# Altium footprint library fszhang.PcbLib: 227 footprints (part 7 of 15)
Each footprint in its own frame and in the unit in brackets; x right, y up, seen from the top. Pads: shape width x height; smd on the part's side, far side on the other; paste and mask are expansions set on the pad; w line width, h text height; cw(c..) or ccw(c..) is an arc to the next point about the centre after c.
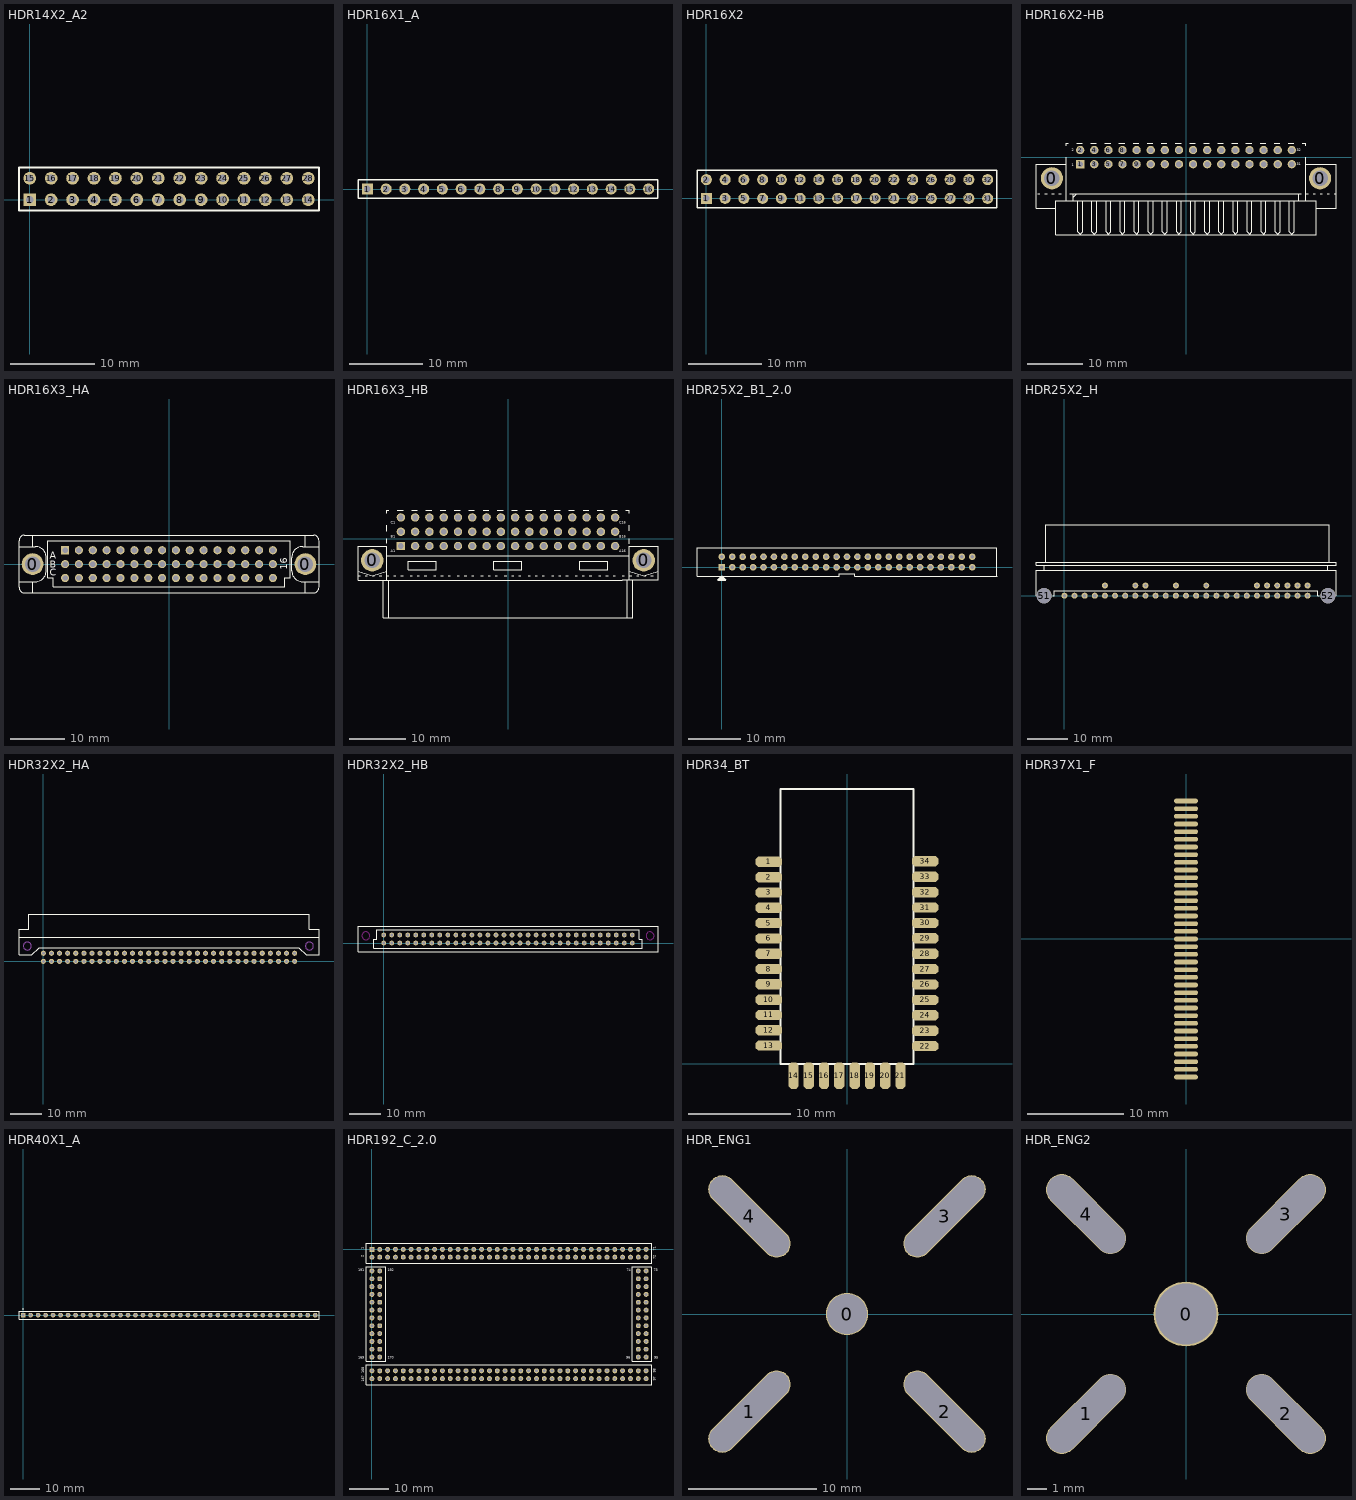
[diagram p6: the footprints below, top view; thin cyan lines are the x and y axes]

## HDR14X2_A2 [mm]
height 7
pads (28):
  rect 1.5x1.5 hole 0.9: 1(0,0)
  round 1.5 hole 0.9: 2(2.54,0) 3(5.08,0) 4(7.62,0) 5(10.16,0) 6(12.7,0) 7(15.24,0) 8(17.78,0) 9(20.32,0) 10(22.86,0) 11(25.4,0) 12(27.94,0) 13(30.48,0) 14(33.02,0) 15(0,2.54) 16(2.54,2.54) 17(5.08,2.54) 18(7.62,2.54) 19(10.16,2.54) 20(12.7,2.54) 21(15.24,2.54) 22(17.78,2.54) 23(20.32,2.54) 24(22.86,2.54) 25(25.4,2.54) 26(27.94,2.54) 27(30.48,2.54) 28(33.02,2.54)
Top Overlay:
  lines w0.2: -1.27,-1.27 -1.27,3.81 34.29,3.81 34.29,-1.27 -1.27,-1.27

## HDR16X1_A [mm] "Connector; Header; 16 Position"
height 5.8
pads (16):
  rect 1.5x1.5 hole 0.9: 1(0,0)
  round 1.5 hole 0.9: 2(2.54,0) 3(5.08,0) 4(7.62,0) 5(10.16,0) 6(12.7,0) 7(15.24,0) 8(17.78,0) 9(20.32,0) 10(22.86,0) 11(25.4,0) 12(27.94,0) 13(30.48,0) 14(33.02,0) 15(35.56,0) 16(38.1,0)
Top Overlay:
  lines w0.2: -1.27,-1.27 -1.27,1.27 0.635,1.27 39.37,1.27 39.37,-1.27 -1.27,-1.27

## HDR16X2 [mm] "Connector; Header; 16x2 Position"
height 1.2
pads (32):
  rect 1.5x1.5 hole 0.9: 1(0,0)
  round 1.5 hole 0.9: 2(0,2.54) 3(2.54,0) 4(2.54,2.54) 5(5.08,0) 6(5.08,2.54) 7(7.62,0) 8(7.62,2.54) 9(10.16,0) 10(10.16,2.54) 11(12.7,0) 12(12.7,2.54) 13(15.24,0) 14(15.24,2.54) 15(17.78,0) 16(17.78,2.54) 17(20.32,0) 18(20.32,2.54) 19(22.86,0) 20(22.86,2.54) 21(25.4,0) 22(25.4,2.54) 23(27.94,0) 24(27.94,2.54) 25(30.48,0) 26(30.48,2.54) 27(33.02,0) 28(33.02,2.54) 29(35.56,0) 30(35.56,2.54) 31(38.1,0) 32(38.1,2.54)
Top Overlay:
  lines w0.2: -1.27,-1.27 39.37,-1.27 39.37,3.81 -1.27,3.81 -1.27,-1.27

## HDR16X2-HB [mm]
height 8.6
pads (34):
  round 4 hole 2.8: 0(-24.13,-3.81) 0(24.13,-3.81)
  rect 1.5x1.5 hole 1: 1(-19.05,-1.27)
  round 1.5 hole 1: 2(-19.05,1.27) 3(-16.51,-1.27) 4(-16.51,1.27) 5(-13.97,-1.27) 6(-13.97,1.27) 7(-11.43,-1.27) 8(-11.43,1.27) 9(-8.89,-1.27) 10(-8.89,1.27) 11(-6.35,-1.27) 12(-6.35,1.27) 13(-3.81,-1.27) 14(-3.81,1.27) 15(-1.27,-1.27) 16(-1.27,1.27) 17(1.27,-1.27) 18(1.27,1.27) 19(3.81,-1.27) 20(3.81,1.27) 21(6.35,-1.27) 22(6.35,1.27) 23(8.89,-1.27) 24(8.89,1.27) 25(11.43,-1.27) 26(11.43,1.27) 27(13.97,-1.27) 28(13.97,1.27) 29(16.51,-1.27) 30(16.51,1.27) 31(19.05,-1.27) 32(19.05,1.27)
Top Overlay:
  lines w0.2: -27,-6.57 -26.924,-6.57 ; -26.67,-6.57 -26.289,-6.57 ; -25.4,-6.57 -25.019,-6.57 ; -24.13,-6.57 -23.749,-6.57 ; -23.45,-7.874 -23.45,-9.21 ; -23.45,-7.84 -20.32,-7.84 ; -22.86,-6.57 -22.479,-6.57 ; -21.59,-7.84 -21.59,0 ; -21.59,-1.27 -27,-1.27 -27,-9.21 -23.45,-9.21 ; -21.59,2.032 -21.59,2.54 -21.209,2.54 ; -20.955,-6.57 20.701,-6.57 ; -20.32,-7.205 -19.685,-6.57 ; -19.685,2.54 -18.669,2.54 ; -19.473,-7.84 -19.473,-13.427 -19.05,-13.85 -18.627,-13.427 -18.627,-7.84 ; -17.145,2.54 -16.129,2.54 ; -16.933,-7.84 -16.933,-13.427 -16.51,-13.85 -16.087,-13.427 -16.087,-7.84 ; -14.605,2.54 -13.589,2.54 ; -14.393,-7.84 -14.393,-13.427 -13.97,-13.85 -13.547,-13.427 -13.547,-7.84 ; -12.065,2.54 -11.049,2.54 ; -11.853,-7.84 -11.853,-13.427 -11.43,-13.85 -11.007,-13.427 -11.007,-7.84 ; -9.525,2.54 -8.509,2.54 ; -9.313,-7.84 -9.313,-13.427 -8.89,-13.85 -8.467,-13.427 -8.467,-7.84 ; -6.985,2.54 -5.969,2.54 ; -6.773,-7.84 -6.773,-13.427 -6.35,-13.85 -5.927,-13.427 -5.927,-7.84 ; -4.445,2.54 -3.429,2.54 ; -4.233,-7.84 -4.233,-13.427 -3.81,-13.85 -3.387,-13.427 -3.387,-7.84 ; -1.905,2.54 -0.889,2.54 ; -1.693,-7.84 -1.693,-13.427 -1.27,-13.85 -0.847,-13.427 -0.847,-7.84 ; 0.635,2.54 1.651,2.54 ; 0.847,-7.84 0.847,-13.427 1.27,-13.85 1.693,-13.427 1.693,-7.84 ; 3.175,2.54 4.191,2.54 ; 3.387,-7.84 3.387,-13.427 3.81,-13.85 4.233,-13.427 4.233,-7.84 ; 5.715,2.54 6.731,2.54 ; 5.927,-7.84 5.927,-13.427 6.35,-13.85 6.773,-13.427 6.773,-7.84 ; 8.255,2.54 9.271,2.54 ; 8.467,-7.84 8.467,-13.427 8.89,-13.85 9.313,-13.427 9.313,-7.84 ; 10.795,2.54 11.811,2.54 ; 11.007,-7.84 11.007,-13.427 11.43,-13.85 11.853,-13.427 11.853,-7.84 ; 13.335,2.54 14.351,2.54 ; 13.547,-7.84 13.547,-13.427 13.97,-13.85 14.393,-13.427 14.393,-7.84 ; 15.875,2.54 16.891,2.54 ; 16.087,-7.84 16.087,-13.427 16.51,-13.85 16.933,-13.427 16.933,-7.84 ; 18.415,2.54 19.431,2.54 ; 18.627,-7.84 18.627,-13.427 19.05,-13.85 19.473,-13.427 19.473,-7.84 ; 20.955,2.54 21.59,2.54 21.59,2.032 ; 21.59,-7.84 21.59,0 ; 21.59,-6.57 21.971,-6.57 ; 21.59,-1.27 27,-1.27 27,-9.21 23.45,-9.21 ; 22.86,-6.57 23.241,-6.57 ; 24.13,-6.57 24.511,-6.57 ; 25.4,-6.57 25.781,-6.57 ; 26.67,-6.57 27,-6.57 ; -23.45,-9.21 -23.45,-14.01 23.45,-14.01 23.45,-9.565 23.45,-8.803 23.45,-7.84 20.32,-7.84 ; -20.32,-7.84 20.32,-7.84 ; -20.32,-7.84 -20.32,-6.57 20.32,-6.57 20.32,-7.84
  text "32" at 19.939,0.889 h0.8
  text "31" at 19.939,-1.651 h0.8
  text "1" at -20.574,-1.778 h0.8
  text "2" at -20.574,0.889 h0.8

## HDR16X3_HA [mm]
height 10
pads (50):
  round 4 hole 2.8: 0(-25,0) 0(25,0)
  rect 1.5x1.5 hole 1: A1(-19.05,2.54)
  round 1.5 hole 1: A2(-16.51,2.54) A3(-13.97,2.54) A4(-11.43,2.54) A5(-8.89,2.54) A6(-6.35,2.54) A7(-3.81,2.54) A8(-1.27,2.54) A9(1.27,2.54) A10(3.81,2.54) A11(6.35,2.54) A12(8.89,2.54) A13(11.43,2.54) A14(13.97,2.54) A15(16.51,2.54) A16(19.05,2.54) B1(-19.05,0) B2(-16.51,0) B3(-13.97,0) B4(-11.43,0) B5(-8.89,0) B6(-6.35,0) B7(-3.81,0) B8(-1.27,0) B9(1.27,0) B10(3.81,0) B11(6.35,0) B12(8.89,0) B13(11.43,0) B14(13.97,0) B15(16.51,0) B16(19.05,0) C1(-19.05,-2.54) C2(-16.51,-2.54) C3(-13.97,-2.54) C4(-11.43,-2.54) C5(-8.89,-2.54) C6(-6.35,-2.54) C7(-3.81,-2.54) C8(-1.27,-2.54) C9(1.27,-2.54) C10(3.81,-2.54) C11(6.35,-2.54) C12(8.89,-2.54) C13(11.43,-2.54) C14(13.97,-2.54) C15(16.51,-2.54) C16(19.05,-2.54)
Top Overlay:
  lines w0.2: -27.5,-3.2 -24.5,-3.2 ccw(c-24.5,-1.2) -22.5,-1.2 -22.5,1.2 ccw(c-24.5,1.2) -24.5,3.2 -27.5,3.2 ; -25,-5.25 -25,-3.2 ; -25,3.2 -25,5.3 ; 25,-5.25 25,-3.2 ; 25,3.2 25,5.3 ; 26.497,-5.25 22.5,-5.25 -22.5,-5.25 -26.5,-5.25 cw(c-26.5,-4.25) -27.5,-4.25 -27.5,3.2 ; 26.5,-5.25 ccw(c26.5,-4.25) 27.5,-4.25 27.5,3.2 ; 27.5,-3.2 24.5,-3.2 cw(c24.5,-1.2) 22.5,-1.2 22.5,1.2 cw(c24.5,1.2) 24.5,3.2 27.5,3.2 ; -27.5,3.2 -27.5,4.3 cw(c-26.5,4.3) -26.5,5.3 26.5,5.3 cw(c26.5,4.3) 27.5,4.3 27.5,3.2 ; -22.2,-2.54 -22.2,4.25 22.2,4.25 22.2,-2.54 21.225,-2.54 21.225,-4.178 -21.225,-4.178 -21.225,-2.54 -22.2,-2.54
  text "B" at -21.844,-0.635 h1.27
  text "A" at -21.844,1.016 h1.27
  text "C" at -21.844,-2.159 h1.27
  text "16" at 21.717,-1.016 h1.27

## HDR16X3_HB [mm]
height 10
pads (50):
  round 4 hole 2.8: 0(-24.13,-3.81) 0(24.13,-3.81)
  rect 1.5x1.5 hole 1: A1(-19.05,-1.27)
  round 1.5 hole 1: A2(-16.51,-1.27) A3(-13.97,-1.27) A4(-11.43,-1.27) A5(-8.89,-1.27) A6(-6.35,-1.27) A7(-3.81,-1.27) A8(-1.27,-1.27) A9(1.27,-1.27) A10(3.81,-1.27) A11(6.35,-1.27) A12(8.89,-1.27) A13(11.43,-1.27) A14(13.97,-1.27) A15(16.51,-1.27) A16(19.05,-1.27) B1(-19.05,1.27) B2(-16.51,1.27) B3(-13.97,1.27) B4(-11.43,1.27) B5(-8.89,1.27) B6(-6.35,1.27) B7(-3.81,1.27) B8(-1.27,1.27) B9(1.27,1.27) B10(3.81,1.27) B11(6.35,1.27) B12(8.89,1.27) B13(11.43,1.27) B14(13.97,1.27) B15(16.51,1.27) B16(19.05,1.27) C1(-19.05,3.81) C2(-16.51,3.81) C3(-13.97,3.81) C4(-11.43,3.81) C5(-8.89,3.81) C6(-6.35,3.81) C7(-3.81,3.81) C8(-1.27,3.81) C9(1.27,3.81) C10(3.81,3.81) C11(6.35,3.81) C12(8.89,3.81) C13(11.43,3.81) C14(13.97,3.81) C15(16.51,3.81) C16(19.05,3.81)
Top Overlay:
  lines w0.2: -26.67,-6.57 -26.289,-6.57 ; -26.67,-5.755 -24.13,-6.566 -21.59,-5.755 ; -25.4,-6.57 -25.019,-6.57 ; -24.13,-6.57 -23.749,-6.57 ; -22.86,-6.57 -22.479,-6.57 ; -21.59,-7.31 -21.59,-1.27 -26.67,-1.27 -26.67,-7.31 -22.92,-7.31 -20.32,-7.31 20.32,-7.31 ; -21.59,-6.57 -21.209,-6.57 ; -21.59,-3.01 21.59,-3.01 ; -21.59,-0.789 -21.59,0 ; -21.59,1.397 -21.59,2.413 ; -21.59,4.572 -21.59,5.08 -21.209,5.08 ; -20.32,-6.57 -19.939,-6.57 ; -19.685,5.08 -18.669,5.08 ; -19.05,-6.57 -18.669,-6.57 ; -17.399,-6.57 -17.018,-6.57 ; -17.145,5.08 -16.129,5.08 ; -16.129,-6.57 -15.748,-6.57 ; -14.859,-6.57 -14.478,-6.57 ; -14.605,5.08 -13.589,5.08 ; -13.208,-6.57 -12.827,-6.57 ; -12.065,5.08 -11.049,5.08 ; -11.938,-6.57 -11.557,-6.57 ; -10.668,-6.57 -10.287,-6.57 ; -9.525,5.08 -8.509,5.08 ; -9.017,-6.57 -8.636,-6.57 ; -7.747,-6.57 -7.366,-6.57 ; -6.985,5.08 -5.969,5.08 ; -6.477,-6.57 -6.096,-6.57 ; -4.826,-6.57 -4.445,-6.57 ; -4.445,5.08 -3.429,5.08 ; -3.556,-6.57 -3.175,-6.57 ; -2.286,-6.57 -1.905,-6.57 ; -1.905,5.08 -0.889,5.08 ; -0.635,-6.57 -0.254,-6.57 ; 0.635,-6.57 1.016,-6.57 ; 0.635,5.08 1.651,5.08 ; 1.905,-6.57 2.286,-6.57 ; 3.175,5.08 4.191,5.08 ; 3.556,-6.57 3.937,-6.57 ; 4.826,-6.57 5.207,-6.57 ; 5.715,5.08 6.731,5.08 ; 6.096,-6.57 6.477,-6.57 ; 7.747,-6.57 8.128,-6.57 ; 8.255,5.08 9.271,5.08 ; 9.017,-6.57 9.398,-6.57 ; 10.287,-6.57 10.668,-6.57 ; 10.795,5.08 11.811,5.08 ; 11.938,-6.57 12.319,-6.57 ; 13.208,-6.57 13.589,-6.57 ; 13.335,5.08 14.351,5.08 ; 14.478,-6.57 14.859,-6.57 ; 15.875,5.08 16.891,5.08 ; 16.129,-6.57 16.51,-6.57 ; 17.399,-6.57 17.78,-6.57 ; 18.415,5.08 19.431,5.08 ; 18.669,-6.57 19.05,-6.57 ; 20.32,-7.304 22.914,-7.304 26.67,-7.304 26.67,-1.27 21.59,-1.27 21.59,-7.304 ; 20.32,-6.57 20.701,-6.57 ; 20.955,5.08 21.59,5.08 21.59,4.572 ; 21.59,-5.755 24.13,-6.566 26.67,-5.755 ; 21.59,-0.865 21.59,0 ; 21.59,1.41 21.59,2.426 ; 24.13,-6.57 24.511,-6.57 ; 25.4,-6.57 25.781,-6.57 ; -22.2,-14.01 -22.2,-7.31 -21.225,-7.31 -21.225,-14.01 21.225,-14.01 21.225,-7.304 22.2,-7.304 22.2,-14.01 -22.2,-14.01 ; -17.755,-5.45 -12.755,-5.45 -12.755,-4.01 -17.755,-4.01 -17.755,-5.45 ; -2.515,-5.45 -2.515,-4.01 2.485,-4.01 2.485,-5.45 -2.515,-5.45 ; 12.755,-5.45 17.755,-5.45 17.755,-4.01 12.755,-4.01 12.755,-5.45 ; 21.59,-6.57 21.971,-6.57 21.59,-6.57 ; 22.86,-6.57 23.241,-6.57 22.86,-6.57
  text "C16" at 19.812,2.54 h0.8
  text "C1" at -20.828,2.54 h0.8
  text "B16" at 19.812,0 h0.8
  text "A16" at 19.812,-2.54 h0.8
  text "A1" at -20.828,-2.54 h0.8
  text "B1" at -20.828,0 h0.8

## HDR25X2_B1_2.0 [mm]
height 7
pads (50):
  rect 1.27x1.27 hole 0.711: 1(0,0)
  round 1.27 hole 0.711: 2(0,2) 3(2,0) 4(2,2) 5(4,0) 6(4,2) 7(6,0) 8(6,2) 9(8,0) 10(8,2) 11(10,0) 12(10,2) 13(12,0) 14(12,2) 15(14,0) 16(14,2) 17(16,0) 18(16,2) 19(18,0) 20(18,2) 21(20,0) 22(20,2) 23(22,0) 24(22,2) 25(24,0) 26(24,2) 27(26,0) 28(26,2) 29(28,0) 30(28,2) 31(30,0) 32(30,2) 33(32,0) 34(32,2) 35(34,0) 36(34,2) 37(36,0) 38(36,2) 39(38,0) 40(38,2) 41(40,0) 42(40,2) 43(42,0) 44(42,2) 45(44,0) 46(44,2) 47(46,0) 48(46,2) 49(48,0) 50(48,2)
Top Overlay:
  lines w0.178: -4.75,-1.75 -4.75,3.75 52.75,3.75 52.75,-1.75 25.5,-1.75 25.5,-1.25 22.5,-1.25 22.5,-1.75 -4.75,-1.75
  lines w0.25: 0,-2 0,-1.75 ; 0,-2 -0.25,-2.25 0.25,-2.25 ; 0,-2 0.25,-2.25 ; 0,-2 -0.5,-2.5 0.5,-2.5 0.25,-2.25 ; 0,-1.75 -0.75,-2.5 0.75,-2.5 0,-1.75
Bottom Overlay:
  text "1" at 0,-1.016 h0.64
  text "2" at 0,3.556 h0.64
  text "9" at 8.128,-1.016 h0.64
  text "10" at 8.128,4.064 h0.64
  text "19" at 18.288,-1.016 h0.64
  text "20" at 18.288,4.064 h0.64
  text "29" at 27.94,-1.016 h0.64
  text "30" at 27.94,4.064 h0.64
  text "39" at 38.1,-1.016 h0.64
  text "40" at 38.1,4.064 h0.64
  text "49" at 48.26,-1.016 h0.64
  text "50" at 48.26,4.064 h0.64

## HDR25X2_H [mm] "控制器接插件"
height 5.8
pads (38):
  round 1.5 hole 0.8: 1(0,0) 2(2.54,0) 3(5.08,0) 4(7.62,0) 5(10.16,0) 6(12.7,0) 7(15.24,0) 8(17.78,0) 9(20.32,0) 10(22.86,0) 11(25.4,0) 12(27.94,0) 13(30.48,0) 14(33.02,0) 15(35.56,0) 16(38.1,0) 17(40.64,0) 18(43.18,0) 19(45.72,0) 20(48.26,0) 21(50.8,0) 22(53.34,0) 23(55.88,0) 24(58.42,0) 25(60.96,0) 30(10.16,2.54) 33(17.78,2.54) 34(20.32,2.54) 37(27.94,2.54) 40(35.56,2.54) 45(48.26,2.54) 46(50.8,2.54) 47(53.34,2.54) 48(55.88,2.54) 49(58.42,2.54) 50(60.96,2.54)
  round 3.81 hole 3.81: 51(-5.08,0) 52(66.04,0)
Top Overlay:
  lines w0.2: -7.112,0 -7.112,6.35 68.072,6.35 68.072,0 ; -5.08,6.35 -5.08,7.62 ; -4.699,8.382 -4.699,17.78 66.421,17.78 66.421,8.382 ; -2.921,0 -2.54,0 -2.54,1.27 63.5,1.27 63.5,0 63.881,0 ; 66.04,6.35 66.04,7.62 ; -7.112,7.62 -7.112,8.382 68.072,8.382 68.072,7.62 -7.112,7.62

## HDR32X2_HA [mm] "Connector; Header; 30x2 Position"
height 5.8
pads (64):
  round 1.6 hole 0.9: a1(78.74,0) a2(76.2,0) a3(73.66,0) a4(71.12,0) a5(68.58,0) a6(66.04,0) a7(63.5,0) a8(60.96,0) a9(58.42,0) a10(55.88,0) a11(53.34,0) a12(50.8,0) a13(48.26,0) a14(45.72,0) a15(43.18,0) a16(40.64,0) a17(38.1,0) a18(35.56,0) a19(33.02,0) a20(30.48,0) a21(27.94,0) a22(25.4,0) a23(22.86,0) a24(20.32,0) a25(17.78,0) a26(15.24,0) a27(12.7,0) a28(10.16,0) a29(7.62,0) a30(5.08,0) a31(2.54,0) a32(0,0) b1(78.74,2.54) b2(76.2,2.54) b3(73.66,2.54) b4(71.12,2.54) b5(68.58,2.54) b6(66.04,2.54) b7(63.5,2.54) b8(60.96,2.54) b9(58.42,2.54) b10(55.88,2.54) b11(53.34,2.54) b12(50.8,2.54) b13(48.26,2.54) b14(45.72,2.54) b15(43.18,2.54) b16(40.64,2.54) b17(38.1,2.54) b18(35.56,2.54) b19(33.02,2.54) b20(30.48,2.54) b21(27.94,2.54) b22(25.4,2.54) b23(22.86,2.54) b24(20.32,2.54) b25(17.78,2.54) b26(15.24,2.54) b27(12.7,2.54) b28(10.16,2.54) b29(7.62,2.54) b30(5.08,2.54) b31(2.54,2.54) b32(0,2.54)
Top Overlay:
  lines w0.2: -7.63,7.62 86.37,7.62 ; -7.63,2 -7.63,10 -4.63,10 -4.63,14.8 83.37,14.8 83.37,10 86.37,10 86.37,2 82.37,2 80.07,4.3 -1.33,4.3 -3.63,2 -7.63,2
Mechanical 1:
  circle w0.2: c83.37,4.8 r1.25
  circle w0.2: c-5.04,4.8 r1.25
3D body: height 1.7, standoff 1, extent 7.239,0.254 8.001,4.318
3D body: height 1.7, standoff 1, extent 4.699,0.254 5.461,4.318
3D body: height 1.7, standoff 1, extent 2.159,0.254 2.921,4.318
3D body: height 1.7, standoff 1, extent -0.381,0.254 0.381,4.318
3D body: height 0.8, standoff 0, extent 78.359,1.905 79.121,4.318
3D body: height 0.8, standoff 0, extent 75.819,1.905 76.581,4.318
3D body: height 0.8, standoff 0, extent 60.579,1.905 61.341,4.318
3D body: height 0.8, standoff 0, extent 63.119,1.905 63.881,4.318
3D body: height 0.8, standoff 0, extent 65.659,1.905 66.421,4.318
3D body: height 0.8, standoff 0, extent 68.199,1.905 68.961,4.318
3D body: height 0.8, standoff 0, extent 70.739,1.905 71.501,4.318
3D body: height 0.8, standoff 0, extent 73.279,1.905 74.041,4.318
3D body: height 0.8, standoff 0, extent 45.339,1.905 46.101,4.318
3D body: height 0.8, standoff 0, extent 47.879,1.905 48.641,4.318
3D body: height 0.8, standoff 0, extent 50.419,1.905 51.181,4.318
3D body: height 0.8, standoff 0, extent 52.959,1.905 53.721,4.318
3D body: height 0.8, standoff 0, extent 55.499,1.905 56.261,4.318
3D body: height 0.8, standoff 0, extent 58.039,1.905 58.801,4.318
3D body: height 0.8, standoff 0, extent 30.099,1.905 30.861,4.318
3D body: height 0.8, standoff 0, extent 32.639,1.905 33.401,4.318
3D body: height 0.8, standoff 0, extent 35.179,1.905 35.941,4.318
3D body: height 0.8, standoff 0, extent 37.719,1.905 38.481,4.318
3D body: height 0.8, standoff 0, extent 40.259,1.905 41.021,4.318
3D body: height 0.8, standoff 0, extent 42.799,1.905 43.561,4.318
3D body: height 0.8, standoff 0, extent 14.859,1.905 15.621,4.318
3D body: height 0.8, standoff 0, extent 17.399,1.905 18.161,4.318
3D body: height 0.8, standoff 0, extent 19.939,1.905 20.701,4.318
3D body: height 0.8, standoff 0, extent 22.479,1.905 23.241,4.318
3D body: height 0.8, standoff 0, extent 25.019,1.905 25.781,4.318
3D body: height 0.8, standoff 0, extent 27.559,1.905 28.321,4.318
3D body: height 0.8, standoff 0, extent 12.319,1.905 13.081,4.318
3D body: height 0.8, standoff 0, extent 9.779,1.905 10.541,4.318
3D body: height 0.8, standoff 0, extent 7.239,1.905 8.001,4.318
3D body: height 0.8, standoff 0, extent 4.699,1.905 5.461,4.318
3D body: height 0.8, standoff 0, extent 2.159,1.905 2.921,4.318
3D body: height 0.8, standoff 0, extent -0.381,1.905 0.381,4.318
3D body: height 2, standoff 0, extent -7.62,2.032 86.36,7.62
3D body: height 2.2, standoff 0, extent -7.62,7.62 86.36,14.732
3D body: height 1.7, standoff 1, extent 9.779,0.254 10.541,4.318
3D body: height 1.7, standoff 1, extent 22.479,0.254 23.241,4.318
3D body: height 1.7, standoff 1, extent 12.319,0.254 13.081,4.318
3D body: height 1.7, standoff 1, extent 14.859,0.254 15.621,4.318
3D body: height 1.7, standoff 1, extent 17.399,0.254 18.161,4.318
3D body: height 1.7, standoff 1, extent 19.939,0.254 20.701,4.318
3D body: height 1.7, standoff 1, extent 35.179,0.254 35.941,4.318
3D body: height 1.7, standoff 1, extent 25.019,0.254 25.781,4.318
3D body: height 1.7, standoff 1, extent 27.559,0.254 28.321,4.318
3D body: height 1.7, standoff 1, extent 30.099,0.254 30.861,4.318
3D body: height 1.7, standoff 1, extent 32.639,0.254 33.401,4.318
3D body: height 1.7, standoff 1, extent 47.879,0.254 48.641,4.318
3D body: height 1.7, standoff 1, extent 37.719,0.254 38.481,4.318
3D body: height 1.7, standoff 1, extent 40.259,0.254 41.021,4.318
3D body: height 1.7, standoff 1, extent 42.799,0.254 43.561,4.318
3D body: height 1.7, standoff 1, extent 45.339,0.254 46.101,4.318
3D body: height 1.7, standoff 1, extent 60.579,0.254 61.341,4.318
3D body: height 1.7, standoff 1, extent 50.419,0.254 51.181,4.318
3D body: height 1.7, standoff 1, extent 52.959,0.254 53.721,4.318
3D body: height 1.7, standoff 1, extent 55.499,0.254 56.261,4.318
3D body: height 1.7, standoff 1, extent 58.039,0.254 58.801,4.318
3D body: height 1.7, standoff 1, extent 73.279,0.254 74.041,4.318
3D body: height 1.7, standoff 1, extent 63.119,0.254 63.881,4.318
3D body: height 1.7, standoff 1, extent 65.659,0.254 66.421,4.318
3D body: height 1.7, standoff 1, extent 68.199,0.254 68.961,4.318
3D body: height 1.7, standoff 1, extent 70.739,0.254 71.501,4.318
3D body: height 1.7, standoff 1, extent 75.819,0.254 76.581,4.318
3D body: height 1.7, standoff 1, extent 78.359,0.254 79.121,4.318
3D body: height 1.7, standoff 0, extent -0.381,-0.381 0.381,0.508
3D body: height 1.7, standoff 0, extent 2.159,-0.381 2.921,0.508
3D body: height 1.7, standoff 0, extent 4.699,-0.381 5.461,0.508
3D body: height 1.7, standoff 0, extent 12.319,-0.381 13.081,0.508
3D body: height 1.7, standoff 0, extent 9.779,-0.381 10.541,0.508
3D body: height 1.7, standoff 0, extent 7.239,-0.381 8.001,0.508
3D body: height 1.7, standoff 0, extent 19.939,-0.381 20.701,0.508
3D body: height 1.7, standoff 0, extent 17.399,-0.381 18.161,0.508
3D body: height 1.7, standoff 0, extent 14.859,-0.381 15.621,0.508
3D body: height 1.7, standoff 0, extent 27.559,-0.381 28.321,0.508
3D body: height 1.7, standoff 0, extent 25.019,-0.381 25.781,0.508
3D body: height 1.7, standoff 0, extent 22.479,-0.381 23.241,0.508
3D body: height 1.7, standoff 0, extent 35.179,-0.381 35.941,0.508
3D body: height 1.7, standoff 0, extent 32.639,-0.381 33.401,0.508
3D body: height 1.7, standoff 0, extent 30.099,-0.381 30.861,0.508
3D body: height 1.7, standoff 0, extent 42.799,-0.381 43.561,0.508
3D body: height 1.7, standoff 0, extent 40.259,-0.381 41.021,0.508
3D body: height 1.7, standoff 0, extent 37.719,-0.381 38.481,0.508
3D body: height 1.7, standoff 0, extent 50.419,-0.381 51.181,0.508
3D body: height 1.7, standoff 0, extent 47.879,-0.381 48.641,0.508
3D body: height 1.7, standoff 0, extent 45.339,-0.381 46.101,0.508
3D body: height 1.7, standoff 0, extent 58.039,-0.381 58.801,0.508
3D body: height 1.7, standoff 0, extent 55.499,-0.381 56.261,0.508
3D body: height 1.7, standoff 0, extent 52.959,-0.381 53.721,0.508
3D body: height 1.7, standoff 0, extent 65.659,-0.381 66.421,0.508
3D body: height 1.7, standoff 0, extent 63.119,-0.381 63.881,0.508
3D body: height 1.7, standoff 0, extent 60.579,-0.381 61.341,0.508
3D body: height 1.7, standoff 0, extent 73.279,-0.381 74.041,0.508
3D body: height 1.7, standoff 0, extent 70.739,-0.381 71.501,0.508
3D body: height 1.7, standoff 0, extent 68.199,-0.381 68.961,0.508
3D body: height 1.7, standoff 0, extent 78.359,-0.381 79.121,0.508
3D body: height 1.7, standoff 0, extent 75.819,-0.381 76.581,0.508

## HDR32X2_HB [mm] "Connector; Header; 30x2 Position"
height 5.8
pads (64):
  round 1.5 hole 0.9: a1(78.74,2.54) a2(76.2,2.54) a3(73.66,2.54) a4(71.12,2.54) a5(68.58,2.54) a6(66.04,2.54) a7(63.5,2.54) a8(60.96,2.54) a9(58.42,2.54) a10(55.88,2.54) a11(53.34,2.54) a12(50.8,2.54) a13(48.26,2.54) a14(45.72,2.54) a15(43.18,2.54) a16(40.64,2.54) a17(38.1,2.54) a18(35.56,2.54) a19(33.02,2.54) a20(30.48,2.54) a21(27.94,2.54) a22(25.4,2.54) a23(22.86,2.54) a24(20.32,2.54) a25(17.78,2.54) a26(15.24,2.54) a27(12.7,2.54) a28(10.16,2.54) a29(7.62,2.54) a30(5.08,2.54) a31(2.54,2.54) a32(0,2.54) b1(78.74,0) b2(76.2,0) b3(73.66,0) b4(71.12,0) b5(68.58,0) b6(66.04,0) b7(63.5,0) b8(60.96,0) b9(58.42,0) b10(55.88,0) b11(53.34,0) b12(50.8,0) b13(48.26,0) b14(45.72,0) b15(43.18,0) b16(40.64,0) b17(38.1,0) b18(35.56,0) b19(33.02,0) b20(30.48,0) b21(27.94,0) b22(25.4,0) b23(22.86,0) b24(20.32,0) b25(17.78,0) b26(15.24,0) b27(12.7,0) b28(10.16,0) b29(7.62,0) b30(5.08,0) b31(2.54,0) b32(0,0)
Top Overlay:
  lines w0.2: -8.13,-2.73 -8.13,5.27 86.87,5.27 86.87,-2.73 -8.13,-2.73 ; -3.13,-1.73 81.87,-1.73 81.87,1.27 80.87,1.27 80.87,4.27 -2.13,4.27 -2.13,1.27 -3.13,1.27 -3.13,-1.73
Keep-Out Layer:
  circle w0.2: c-5.63,2.286 r1.25
  circle w0.2: c84.37,2.286 r1.25

## HDR34_BT [mm] "蓝牙模块"
pads (34):
  oct 2.6x1 smd: 1(-7.62,19.697) 2(-7.62,18.205) 3(-7.62,16.712) 4(-7.62,15.22) 5(-7.62,13.728) 6(-7.62,12.236) 7(-7.62,10.743) 8(-7.62,9.251) 9(-7.62,7.759) 10(-7.62,6.267) 11(-7.62,4.774) 12(-7.62,3.282) 13(-7.62,1.79) 22(7.62,1.74) 23(7.62,3.241) 24(7.62,4.741) 25(7.62,6.242) 26(7.62,7.742) 27(7.62,9.243) 28(7.62,10.743) 29(7.62,12.244) 30(7.62,13.745) 31(7.62,15.245) 32(7.62,16.746) 33(7.62,18.246) 34(7.62,19.747)
  oct 1x2.6 smd: 14(-5.207,-1.143) 15(-3.719,-1.143) 16(-2.232,-1.143) 17(-0.744,-1.143) 18(0.744,-1.143) 19(2.232,-1.143) 20(3.719,-1.143) 21(5.207,-1.143)
Top Overlay:
  lines w0.2: -6.477,0 -6.477,26.797 6.477,26.797 6.477,0 0,0 -6.477,0

## HDR37X1_F [mm]
pads (37):
  oval 2.5x0.5 smd: 1(0,14.4) 2(0,13.6) 3(0,12.8) 4(0,12) 5(0,11.2) 6(0,10.4) 7(0,9.6) 8(0,8.8) 9(0,8) 10(0,7.2) 11(0,6.4) 12(0,5.6) 13(0,4.8) 14(0,4) 15(0,3.2) 16(0,2.4) 17(0,1.6) 18(0,0.8) 19(0,0) 20(0,-0.8) 21(0,-1.6) 22(0,-2.4) 23(0,-3.2) 24(0,-4) 25(0,-4.8) 26(0,-5.6) 27(0,-6.4) 28(0,-7.2) 29(0,-8) 30(0,-8.8) 31(0,-9.6) 32(0,-10.4) 33(0,-11.2) 34(0,-12) 35(0,-12.8) 36(0,-13.6) 37(0,-14.4)

## HDR40X1_A [mm] "Connector; Header; 30 Position"
height 1.2
pads (40):
  rect 1.6x1.6 hole 0.99: 1(0,0)
  round 1.6 hole 0.99: 2(2.54,0) 3(5.08,0) 4(7.62,0) 5(10.16,0) 6(12.7,0) 7(15.24,0) 8(17.78,0) 9(20.32,0) 10(22.86,0) 11(25.4,0) 12(27.94,0) 13(30.48,0) 14(33.02,0) 15(35.56,0) 16(38.1,0) 17(40.64,0) 18(43.18,0) 19(45.72,0) 20(48.26,0) 21(50.8,0) 22(53.34,0) 23(55.88,0) 24(58.42,0) 25(60.96,0) 26(63.5,0) 27(66.04,0) 28(68.58,0) 29(71.12,0) 30(73.66,0)
  round 1.6 hole 1: 31(76.2,0) 32(78.74,0) 33(81.28,0) 34(83.82,0) 35(86.36,0) 36(88.9,0) 37(91.44,0) 38(93.98,0) 39(96.52,0) 40(99.06,0)
Top Overlay:
  circle w0.25: c0,2.05 r0.125
  lines w0.2: -1.4,-1.4 -1.4,1.4 100.33,1.4 100.33,-1.4 -1.4,-1.4

## HDR192_C_2.0 [mm] "2440"
height 7
pads (192):
  rect 1.27x1.27 hole 0.7: 1(0,0)
  round 1.27 hole 0.7: 2(0,-2) 3(2,0) 4(2,-2) 5(4,0) 6(4,-2) 7(6,0) 8(6,-2) 9(8,0) 10(8,-2) 11(10,0) 12(10,-2) 13(12,0) 14(12,-2) 15(14,0) 16(14,-2) 17(16,0) 18(16,-2) 19(18,0) 20(18,-2) 21(20,0) 22(20,-2) 23(22,0) 24(22,-2) 25(24,0) 26(24,-2) 27(26,0) 28(26,-2) 29(28,0) 30(28,-2) 31(30,0) 32(30,-2) 33(32,0) 34(32,-2) 35(34,0) 36(34,-2) 37(36,0) 38(36,-2) 39(38,0) 40(38,-2) 41(40,0) 42(40,-2) 43(42,0) 44(42,-2) 45(44,0) 46(44,-2) 47(46,0) 48(46,-2) 49(48,0) 50(48,-2) 51(50,0) 52(50,-2) 53(52,0) 54(52,-2) 55(54,0) 56(54,-2) 57(56,0) 58(56,-2) 59(58,0) 60(58,-2) 61(60,0) 62(60,-2) 63(62,0) 64(62,-2) 65(64,0) 66(64,-2) 67(66,0) 68(66,-2) 69(68,0) 70(68,-2) 71(70,0) 72(70,-2) 73(70,-5.5) 74(68,-5.5) 75(70,-7.5) 76(68,-7.5) 77(70,-9.5) 78(68,-9.5) 79(70,-11.5) 80(68,-11.5) 81(70,-13.5) 82(68,-13.5) 83(70,-15.5) 84(68,-15.5) 85(70,-17.5) 86(68,-17.5) 87(70,-19.5) 88(68,-19.5) 89(70,-21.5) 90(68,-21.5) 91(70,-23.5) 92(68,-23.5) 93(70,-25.5) 94(68,-25.5) 95(70,-27.5) 96(68,-27.5) 97(70,-33) 98(70,-31) 99(68,-33) 100(68,-31) 101(66,-33) 102(66,-31) 103(64,-33) 104(64,-31) 105(62,-33) 106(62,-31) 107(60,-33) 108(60,-31) 109(58,-33) 110(58,-31) 111(56,-33) 112(56,-31) 113(54,-33) 114(54,-31) 115(52,-33) 116(52,-31) 117(50,-33) 118(50,-31) 119(48,-33) 120(48,-31) 121(46,-33) 122(46,-31) 123(44,-33) 124(44,-31) 125(42,-33) 126(42,-31) 127(40,-33) 128(40,-31) 129(38,-33) 130(38,-31) 131(36,-33) 132(36,-31) 133(34,-33) 134(34,-31) 135(32,-33) 136(32,-31) 137(30,-33) 138(30,-31) 139(28,-33) 140(28,-31) 141(26,-33) 142(26,-31) 143(24,-33) 144(24,-31) 145(22,-33) 146(22,-31) 147(20,-33) 148(20,-31) 149(18,-33) 150(18,-31) 151(16,-33) 152(16,-31) 153(14,-33) 154(14,-31) 155(12,-33) 156(12,-31) 157(10,-33) 158(10,-31) 159(8,-33) 160(8,-31) 161(6,-33) 162(6,-31) 163(4,-33) 164(4,-31) 165(2,-33) 166(2,-31) 167(0,-33) 168(0,-31) 169(0,-27.5) 170(2,-27.5) 171(0,-25.5) 172(2,-25.5) 173(0,-23.5) 174(2,-23.5) 175(0,-21.5) 176(2,-21.5) 177(0,-19.5) 178(2,-19.5) 179(0,-17.5) 180(2,-17.5) 181(0,-15.5) 182(2,-15.5) 183(0,-13.5) 184(2,-13.5) 185(0,-11.5) 186(2,-11.5) 187(0,-9.5) 188(2,-9.5) 189(0,-7.5) 190(2,-7.5) 191(0,-5.5) 192(2,-5.5)
Top Overlay:
  lines w0.2: -1.469,-3.5 -1.469,1.5 71.439,1.5 71.439,-3.5 -1.469,-3.5
  lines w0.254: -1.5,-34.5 71.5,-34.5 71.5,-29.5 -1.5,-29.5 -1.5,-34.5 ; -1.5,-28.5 -1.5,-4.5 3.5,-4.5 3.5,-28.5 -1.5,-28.5 ; 66.5,-28.5 71.5,-28.5 71.5,-4.5 66.5,-4.5 66.5,-28.5
  text "1" at -2.032,0 h0.64
  text "2" at -2.032,-2.032 h0.64
  text "71" at 72.4,-0.4 h0.64
  text "72" at 72.4,-2.5 h0.64
  text "74" at 65.024,-5.588 h0.64
  text "73" at 72,-5.6 h0.64
  text "95" at 72.136,-27.94 h0.64
  text "96" at 64.9,-27.9 h0.64
  text "97" at 72.4,-33.6 h0.64
  text "98" at 72.4,-31.5 h0.64
  text "167" at -2,-33.8 h0.64
  text "170" at 4.064,-27.94 h0.64
  text "169" at -3.556,-27.94 h0.64
  text "191" at -3.556,-5.588 h0.64
  text "192" at 4.064,-5.588 h0.64
  text "168" at -2,-31.6 h0.64

## HDR_ENG1 [mm] "舵机"
height 3
pads (5):
  round 3.3 hole 3.1: 0(0,0)
  oval 2.2x8.2 hole 2 slot 8 at 45 deg rot 135: 1(-7.62,-7.62) 3(7.62,7.62)
  oval 2.2x8.2 hole 2 slot 8 at 135 deg rot 45: 2(7.62,-7.62) 4(-7.62,7.62)

## HDR_ENG2 [mm] "舵机"
height 3
pads (5):
  round 3.3 hole 3.1: 0(0,0)
  oval 1.6x5.1 hole 1.5 slot 5 at 45 deg rot 135: 1(-5.08,-5.08) 3(5.08,5.08)
  oval 1.6x5.1 hole 1.5 slot 5 at 135 deg rot 45: 2(5.08,-5.08) 4(-5.08,5.08)